# Altium footprint library SOP254P1016X460-6N.PcbLib: 1 footprints
Each footprint in its own frame and in the unit in brackets; x right, y up, seen from the top. Pads: shape width x height; smd on the part's side, far side on the other; paste and mask are expansions set on the pad; w line width, h text height; cw(c..) or ccw(c..) is an arc to the next point about the centre after c.
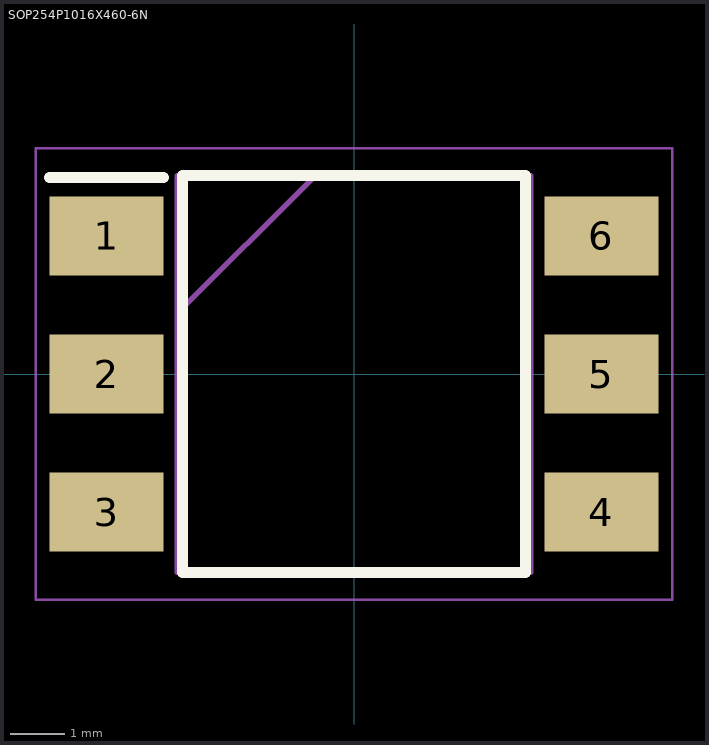
[diagram p0: the footprint, top view; thin cyan lines are the x and y axes]

## SOP254P1016X460-6N [mm]
pads (6):
  rect 2.1x1.45 smd: 1(-4.55,2.54) 2(-4.55,0) 3(-4.55,-2.54) 4(4.55,-2.54) 5(4.55,0) 6(4.55,2.54)
Top Overlay:
  lines w0.2: -5.6,3.615 -3.5,3.615 ; -3.15,-3.65 -3.15,3.65 3.15,3.65 3.15,-3.65 -3.15,-3.65
Mechanical 15:
  lines w0.1: -3.25,1.11 -0.71,3.65 ; -3.25,-3.65 -3.25,3.65 3.25,3.65 3.25,-3.65 -3.25,-3.65
Mechanical 20:
  lines w0.05: -5.85,-4.15 -5.85,4.15 5.85,4.15 5.85,-4.15 -5.85,-4.15
3D body "CNY17-3-300E.stp": height 4.6, standoff 0, extent -5.08,-3.65 5.08,3.65